# EAGLE library part 2472 (library BNO055_IMU)
Check availability <https://pricing.snapeda.com/parts/2472/Adafruit/view-part?ref=eda>
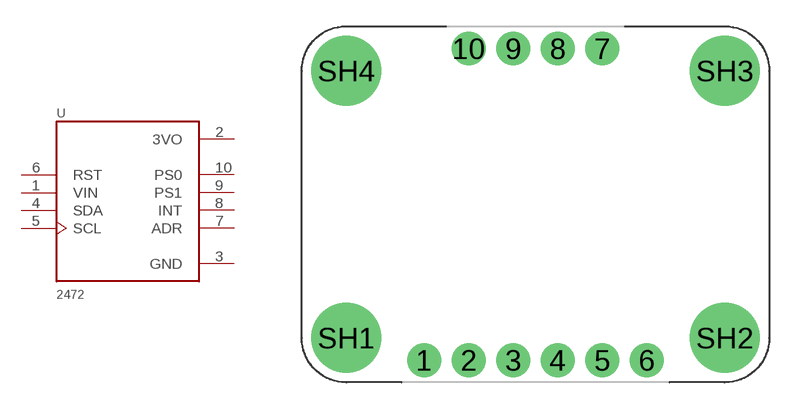
[diagram p0: symbol with the pads of MODULE_2472; footprint MODULE_2472]

Designator prefix U

## 2472 (Availability: In Stock; Check_prices: https://www.snapeda.com/parts/2472/Adafruit+Industries/view-part/?ref=eda; Description: Adafruit 9-DOF Absolute Orientation IMU Fusion Breakout - BNO055 | Adafruit Industries 2472; MF: Adafruit; MP: 2472; Package: Non-Standard Adafruit; Price: None; Purchase-URL: https://www.snapeda.com/api/url_track_click_mouser/?unipart_id=6348449&manufacturer=Adafruit&part_name=2472&search_term=bno055; SnapEDA_Link: https://www.snapeda.com/parts/2472/Adafruit+Industries/view-part/?ref=snap)  [MODULE_2472]
1  VIN  in
2  3VO  pwr
3  GND  pwr
4  SDA
5  SCL  in
6  RST  in
7  ADR  pas
8  INT  out
9  PS1
10  PS0

## Footprint MODULE_2472 (pad centres in mm)
drill 1 pad 1.93: 1 -6.35,-8.89; 2 -3.81,-8.89; 3 -1.27,-8.89; 4 1.27,-8.89; 5 3.81,-8.89; 6 6.35,-8.89; 7 3.81,8.89; 8 1.27,8.89; 9 -1.27,8.89; 10 -3.81,8.89
drill 2.5 pad 4: SH1 -10.795,-7.62; SH2 10.795,-7.62; SH3 10.795,7.62; SH4 -10.795,7.62